# EAGLE library part MPM3630 (library OTHERTEST)
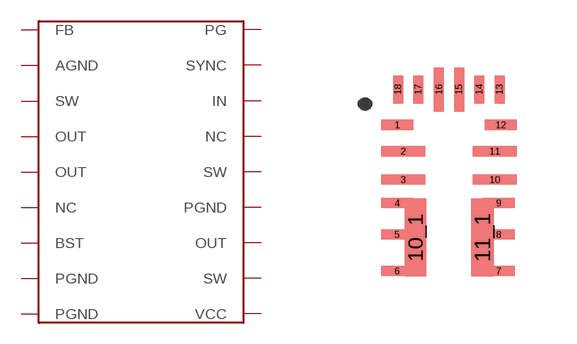
[diagram p3: symbol with the pads of MPM3630; footprint MPM3630]

Designator prefix U

## MPM3630 (DATASHEET: https://www.monolithicpower.com/DesktopModules/DocumentManage/API/Document/GetDocument?id=4863; MANUFACTURER: MPS)  [MPM3630]
1  FB  nc
2  VCC  nc
3  AGND  nc
4  SW  nc
5  SW  nc
6  SW  nc
7  OUT  nc
8  OUT  nc
9  OUT  nc
10  NC  nc
11  BST  nc
12  PGND  nc
13  PGND  nc
14  PGND  nc
15  NC  nc
16  IN  nc
17  SYNC  nc
18  PG  nc

## Footprint MPM3630 (pad centres in mm)
smd 0.798 x 0.254: 1 -1.295,1.549; 4 -1.295,-0.406; 5 -1.295,-1.194; 6 -1.295,-2.108; 7 1.245,-2.108; 8 1.245,-1.194; 9 1.245,-0.406; 12 1.295,1.549
smd 1.1 x 0.254: 2 -1.143,0.889; 3 -1.143,0.178; 10 1.143,0.178; 11 1.143,0.889
smd 0.546 x 1.95: 10_1 -0.838,-1.27
smd 0.559 x 1.95: 11_1 0.838,-1.27
smd 0.249 x 0.7: 13 1.27,2.438; 14 0.762,2.438; 17 -0.762,2.438; 18 -1.27,2.438
smd 0.249 x 1.1: 15 0.254,2.438
smd 0.254 x 1.1: 16 -0.254,2.438